# EAGLE library part ADAFRUIT-PCA9685 (library adafruit-pca9685)
AQM0802A-RN-GBW LCD
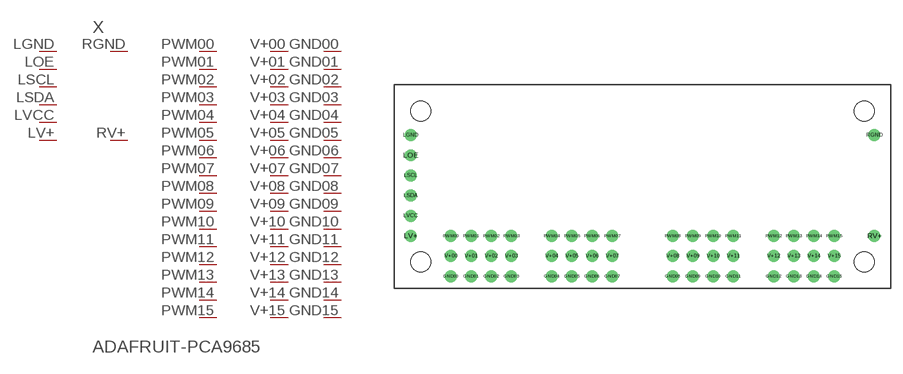
[diagram p0: symbol with the pads of ADAFRUIT-PCA9685-FOOTPRINT; footprint ADAFRUIT-PCA9685-FOOTPRINT]

Designator prefix X

## ADAFRUIT-PCA9685  [ADAFRUIT-PCA9685-FOOTPRINT]
GND00  45  pas
GND01  46  pas
GND02  47  pas
GND03  48  pas
GND04  49  pas
GND05  50  pas
GND06  51  pas
GND07  52  pas
GND08  53  pas
GND09  54  pas
GND10  55  pas
GND11  56  pas
GND12  57  pas
GND13  58  pas
GND14  59  pas
GND15  60  pas
LGND  1  pas
LOE  2  pas
LSCL  3  pas
LSDA  4  pas
LV+  6  pas
LVCC  5  pas
PWM00  13  pas
PWM01  14  pas
PWM02  15  pas
PWM03  16  pas
PWM04  17  pas
PWM05  18  pas
PWM06  19  pas
PWM07  20  pas
PWM08  21  pas
PWM09  22  pas
PWM10  23  pas
PWM11  24  pas
PWM12  25  pas
PWM13  26  pas
PWM14  27  pas
PWM15  28  pas
RGND  7  pas
RV+  12  pas
V+00  29  pas
V+01  30  pas
V+02  31  pas
V+03  32  pas
V+04  33  pas
V+05  34  pas
V+06  35  pas
V+07  36  pas
V+08  37  pas
V+09  38  pas
V+10  39  pas
V+11  40  pas
V+12  41  pas
V+13  42  pas
V+14  43  pas
V+15  44  pas

## Footprint ADAFRUIT-PCA9685-FOOTPRINT (pad centres in mm)
Adafruit PCA9685 16x12-bit PWM
drill 1: GND00 -24.13,1.524; GND01 -21.59,1.524; GND02 -19.05,1.524; GND03 -16.51,1.524; GND04 -11.43,1.524; GND05 -8.89,1.524; GND06 -6.35,1.524; GND07 -3.81,1.524; GND08 3.81,1.524; GND09 6.35,1.524; GND10 8.89,1.524; GND11 11.43,1.524; GND12 16.51,1.524; GND13 19.05,1.524; GND14 21.59,1.524; GND15 24.13,1.524; LGND -29.21,19.304; LOE -29.21,16.764; LSCL -29.21,14.224; LSDA -29.21,11.684; LV+ -29.21,6.604; LVCC -29.21,9.144; PWM00 -24.13,6.604; PWM01 -21.59,6.604; PWM02 -19.05,6.604; PWM03 -16.51,6.604; PWM04 -11.43,6.604; PWM05 -8.89,6.604; PWM06 -6.35,6.604; PWM07 -3.81,6.604; PWM08 3.81,6.604; PWM09 6.35,6.604; PWM10 8.89,6.604; PWM11 11.43,6.604; PWM12 16.51,6.604; PWM13 19.05,6.604; PWM14 21.59,6.604; PWM15 24.13,6.604; RGND 29.21,19.304; RV+ 29.21,6.604; V+00 -24.13,4.064; V+01 -21.59,4.064; V+02 -19.05,4.064; V+03 -16.51,4.064; V+04 -11.43,4.064; V+05 -8.89,4.064; V+06 -6.35,4.064; V+07 -3.81,4.064; V+08 3.81,4.064; V+09 6.35,4.064; V+10 8.89,4.064; V+11 11.43,4.064; V+12 16.51,4.064; V+13 19.05,4.064; V+14 21.59,4.064; V+15 24.13,4.064
hole 2.54 at -27.94,3.302
hole 2.54 at 27.94,3.302
hole 2.54 at -27.94,22.352
hole 2.54 at 27.94,22.352